# Altium integrated library JS102011JCQN SPDT.IntLib: 1 symbol
Pins are listed as number, name and electrical type; pins without a type are passive.

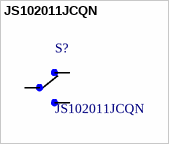
[diagram p0: symbol JS102011JCQN]

## JS102011JCQN
designator S?
SWITCH SLIDE SPDT 300MA 6V / Manufacturer PN: JS102011JCQN; MF: C&K; Price: None; SnapEDA_Link: https://www.snapeda.com/parts/JS102011JCQN/C%26K/view-part/?ref=snap; Availability: Unavailable; MP: JS102011JCQN; Package: None; Value: *
footprint SW_JS102011JCQN
pins: 1, 2, 3